# Altium footprint library JS202011JCQN.PcbLib: 1 footprints
Each footprint in its own frame and in the unit in brackets; x right, y up, seen from the top. Pads: shape width x height; smd on the part's side, far side on the other; paste and mask are expansions set on the pad; w line width, h text height; cw(c..) or ccw(c..) is an arc to the next point about the centre after c.
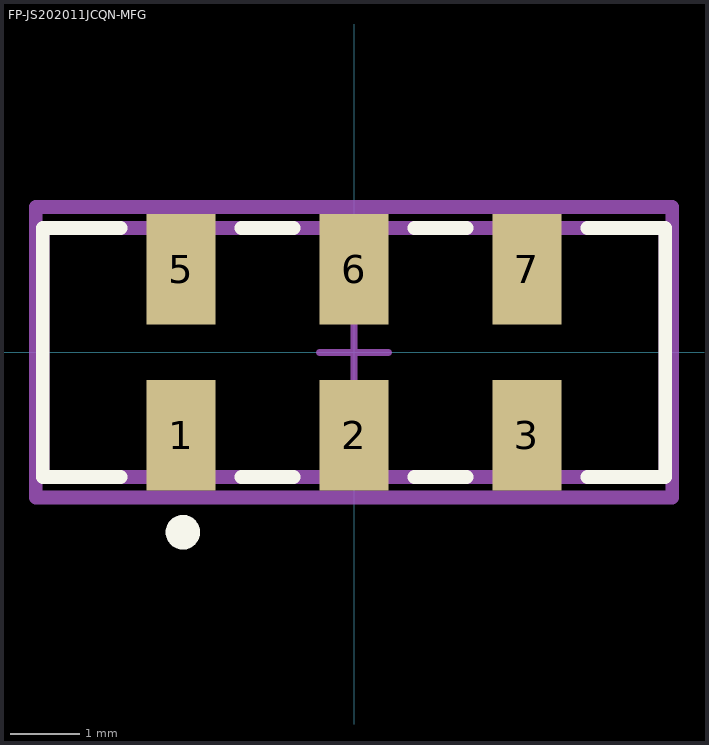
[diagram p0: the footprint, top view; thin cyan lines are the x and y axes]

## FP-JS202011JCQN-MFG [mm]
pads (6):
  rect 1x1.6 smd paste+0 mask+0: 1(-2.5,-1.2) 2(0,-1.2) 3(2.5,-1.2) 5(-2.5,1.2) 6(0,1.2) 7(2.5,1.2)
Top Overlay:
  circle w0.25: c-2.475,-2.6 r0.125
  lines w0.2: -3.375,-1.8 -4.5,-1.8 -4.5,1.8 -3.375,1.8 ; -1.625,-1.8 -0.875,-1.8 ; -1.625,1.8 -0.875,1.8 ; 0.875,-1.8 1.625,-1.8 ; 0.875,1.8 1.625,1.8 ; 3.375,-1.8 4.5,-1.8 4.5,1.8 3.375,1.8
Top Assembly:
  lines w0.2: -4.6,-2.1 -4.6,2.1 4.6,2.1 4.6,-2.1 -4.6,-2.1
  text ".Designator" at 0,0.187 h1
Top 3D Body:
  lines w0.2: -4.5,-1.8 -4.5,1.8 4.5,1.8 4.5,-1.8 -4.5,-1.8
Top Courtyard:
  lines w0.2: -4.6,-2.1 -4.6,2.1 4.6,2.1 4.6,-2.1 -4.6,-2.1
Top Component Center:
  lines w0.1: -0.5,0 0.5,0 ; 0,-0.5 0,0.5
3D body "Switch_C&K_Components_JS202011JCQN_eec.STEP": height 0.25, standoff 0, extent -4.6,-2.1 4.6,2.1